# Altium footprint library PCB_Library.PcbLib: 13 footprints
Each footprint in its own frame and in the unit in brackets; x right, y up, seen from the top. Pads: shape width x height; smd on the part's side, far side on the other; paste and mask are expansions set on the pad; w line width, h text height; cw(c..) or ccw(c..) is an arc to the next point about the centre after c.
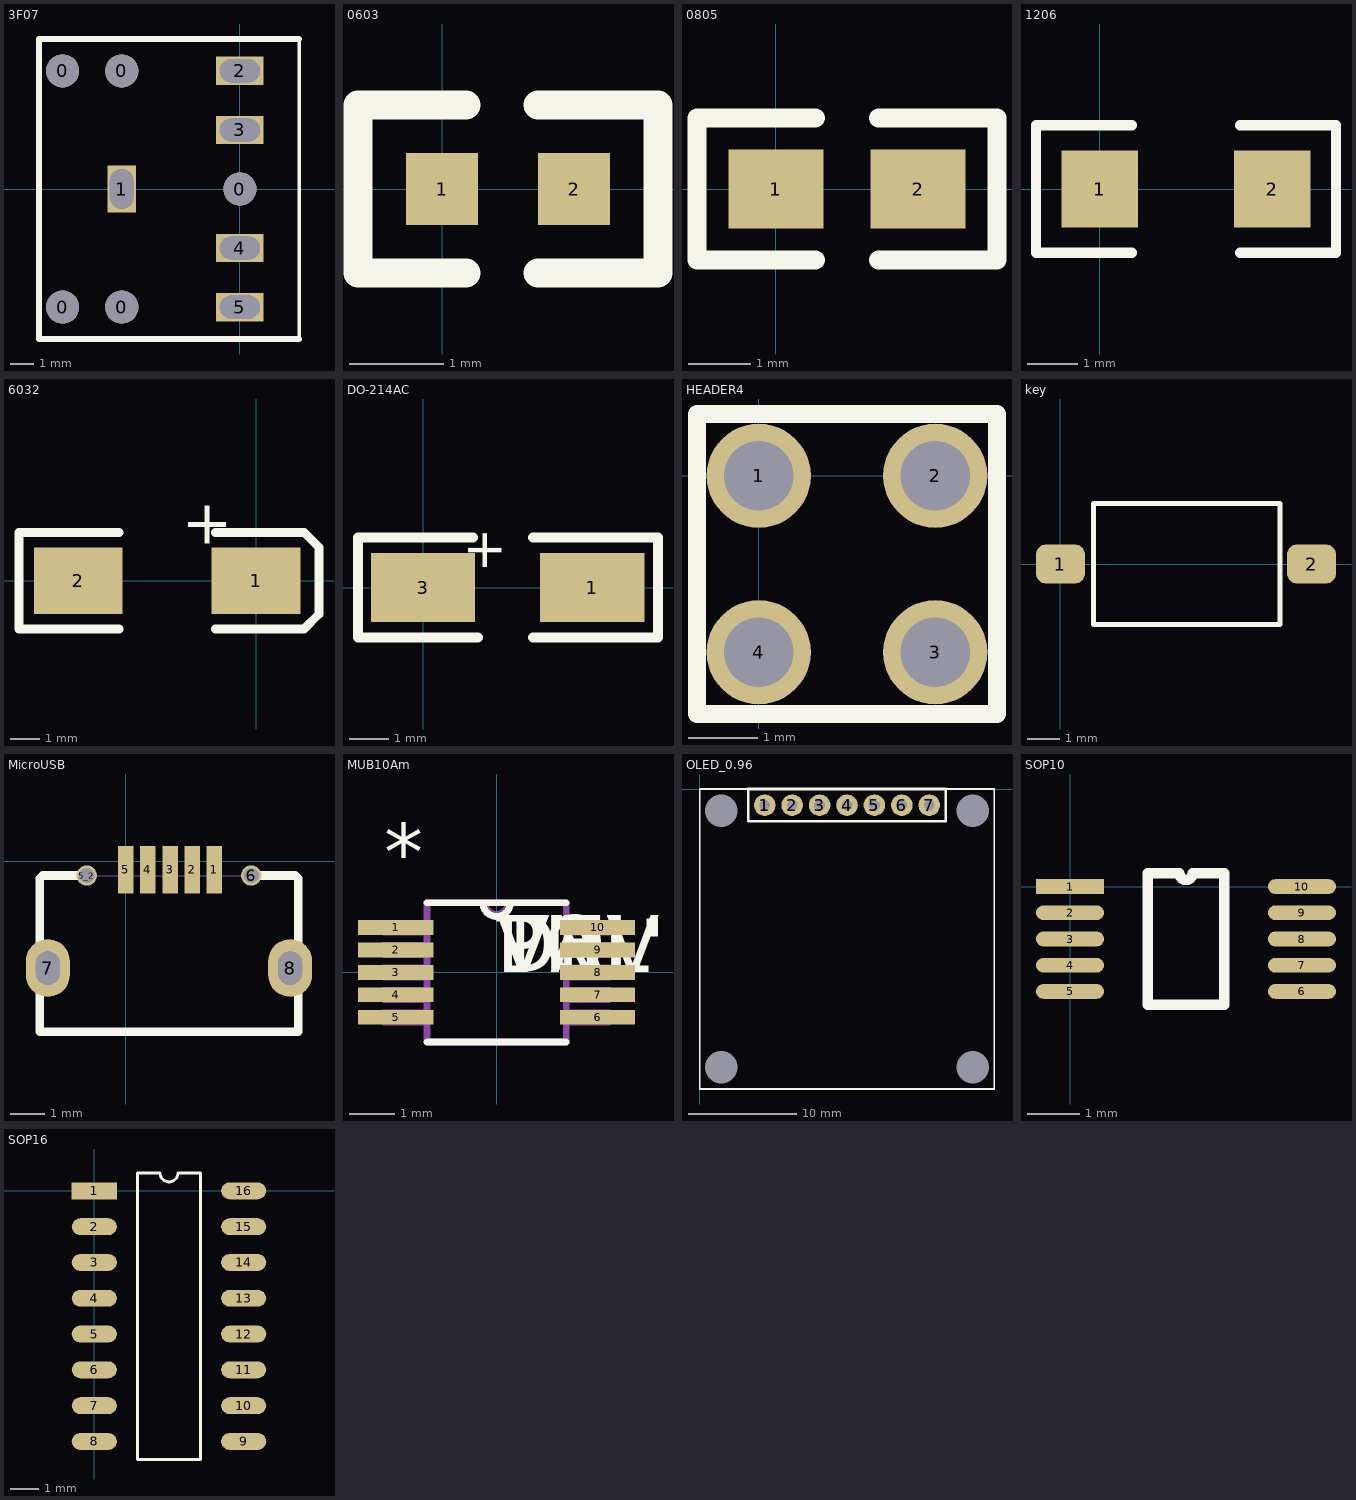
[diagram p0: the footprints below, top view; thin cyan lines are the x and y axes]

## 3F07 [mm]
pads (10):
  round 1.4 hole 1.4: 0(-7.5,-5) 0(-7.5,5) 0(-5,-5) 0(-5,5) 0(0,0)
  rect 1.2x2 hole 1 slot 1.7 at 90 deg: 1(-5,0)
  rect 2x1.2 hole 1 slot 1.7 at 0 deg: 2(0,5) 3(0,2.5) 4(0,-2.5) 5(0,-5)
Top Overlay:
  lines w0.152: 2.509,-6.35 2.509,6.35
  lines w0.254: 2.509,-6.35 -8.491,-6.35 -8.5,-6.341 -8.5,-5 -8.5,5 -8.5,6.341 -8.509,6.35 2.509,6.35

## 0603 [mil]
pads (2):
  rect 30x30 smd: 1(0,0) 2(55,0)
Top Overlay:
  lines w12: 10,-35 -35,-35 -35,35 10,35 ; 40,-35 90,-35 90,35 40,35

## 0805 [mil]
pads (2):
  rect 60x50 smd: 1(0,0) 2(90,0)
Top Overlay:
  lines w12: 25,-45 -50,-45 -50,45 25,45 ; 65,-45 140,-45 140,45 65,45

## 1206 [mil]
pads (2):
  rect 60x60 smd: 1(0,0) 2(135,0)
Top Overlay:
  lines w8: 25,-50 -50,-50 -50,50 25,50 ; 110,-50 185,-50 185,50 110,50

## 6032 [mil]
pads (2):
  rect 120x90 smd: 1(0,0) 2(-240,0)
Top Overlay:
  lines w12: -185,-65 -320,-65 -320,65 -185,65 ; -55,-65 65,-65 85,-45 85,45 65,65 -55,65
  text "+" at -100,50 h60

## DO-214AC [mm]
pads (2):
  rect 2.65x1.75 smd: 1(4.3,0) 3(0,0)
Top Overlay:
  lines w0.254: 1.27,1.27 -1.651,1.27 -1.651,-1.27 1.397,-1.27 ; 2.794,-1.27 5.969,-1.27 5.969,1.27 2.794,1.27
  text "+" at 1.143,1.524 h1

## HEADER4 [mm]
pads (4):
  round 1.5 hole 1: 1(0,0) 2(2.54,0) 3(2.54,-2.54) 4(0,-2.54)
Top Overlay:
  lines w0.254: -0.889,-3.429 -0.889,0.889 3.429,0.889 3.429,-3.429 -0.889,-3.429

## key [mm]
pads (2):
  rrect50% 1.5x1.2 smd: 1(0,0) 2(7.7,0)
Top Overlay:
  lines w0.152: 1.016,-1.85 1.016,1.85 6.731,1.85 6.731,-1.85 1.016,-1.85

## MicroUSB [mm]
height 2.997
pads (9):
  rect 0.457x1.397 smd: 1(2.6,-0.254) 2(1.95,-0.254) 3(1.3,-0.254) 4(0.65,-0.254) 5(0,-0.254)
  round 0.6 hole 0.45: 5_2(-1.155,-0.42) 6(3.695,-0.42)
  oval 1.3x1.7 hole 0.7 slot 1 at 90 deg: 7(-2.305,-3.15) 8(4.845,-3.15)
Top Overlay:
  lines w0.254: -2.305,-3.15 -2.54,-2.915 ; -1.155,-0.42 -2.452,-0.42 -2.54,-0.508 -2.54,-2.915 ; 3.695,-0.42 4.992,-0.42 5.08,-0.508 5.08,-3.15 ; 5.131,-2.667 5.08,-2.718 5.08,-5.029 -1.915,-5.029 -2.54,-5.029 -2.54,-2.915
Mechanical 1:
  lines w0: -2.497,-5.029 5.097,-5.029 5.097,-0.432 -2.497,-0.432 -2.497,-5.029

## MUB10Am [mil]
height 43
pads (10):
  rect 66x13 smd: 1(-88.5,39.37) 2(-88.5,19.68) 3(-88.5,0) 4(-88.5,-19.68) 5(-88.5,-39.37) 6(88.5,-39.37) 7(88.5,-19.68) 8(88.5,0) 9(88.5,19.68) 10(88.5,39.37)
Top Overlay:
  region: 131.5,46.87 141.5,46.87 141.5,31.87 131.5,31.87
  lines w6: -61,-61 61,-61 ; -61,61 61,61 ; -12,61 ccw(c0,61) 12,61
  text "*" at -98.5,80.87 h50
  text "PN" at 0,0 h50
  text "DEV" at 0,0 h50
  text "VAL" at 0,0 h50
  text "TOL" at 0,0 h50
Mechanical 1:
  lines w0: -12,61 ccw(c0,61) 12,61 ; -99.5,-45.87 -99.5,-32.87 -61,-32.87 -61,-45.87 -99.5,-45.87 ; -99.5,-26.18 -99.5,-13.19 -61,-13.19 -61,-26.18 -99.5,-26.18 ; -99.5,-6.5 -99.5,6.5 -61,6.5 -61,-6.5 -99.5,-6.5 ; -99.5,13.19 -99.5,26.18 -61,26.18 -61,13.19 -99.5,13.19 ; -99.5,32.87 -99.5,45.87 -61,45.87 -61,32.87 -99.5,32.87 ; -61,-61 61,-61 61,61 -61,61 -61,-61 ; 61,-45.87 61,-32.87 99.5,-32.87 99.5,-45.87 61,-45.87 ; 61,-26.18 61,-13.19 99.5,-13.19 99.5,-26.18 61,-26.18 ; 61,-6.5 61,6.5 99.5,6.5 99.5,-6.5 61,-6.5 ; 61,13.19 61,26.18 99.5,26.18 99.5,13.19 61,13.19 ; 61,32.87 61,45.87 99.5,45.87 99.5,32.87 61,32.87
  lines w6: -10.17,61 ccw(c0,61) 10.17,61 ; -61,-61 -61,61 61,61 61,-61 -61,-61
  text "*" at -98.5,80.87 h50
  text "RefDes2" at 0,0 h50
  text "43" at 0,0 h50
  text "2" at 0,0 h50

## OLED_0.96 [mm]
pads (11):
  round 0 hole 3: 0(2,-25.8) 0(2,-2) 0(25.3,-25.8) 0(25.3,-2)
  round 2 hole 1: 1(6.03,-1.5) 2(8.57,-1.5) 3(11.11,-1.5) 4(13.65,-1.5) 5(16.19,-1.5) 6(18.73,-1.5) 7(21.27,-1.5)
Top Overlay:
  lines w0.152: 0,-27.8 27.3,-27.8 27.3,-0.5 27.3,0 0,0 0,-27.8
  lines w0.254: 4.506,-3 4.506,0 22.794,0 22.794,-3 4.506,-3

## SOP10 [mm]
pads (10):
  rect 1.3x0.28 smd: 1(0,0)
  oval 1.3x0.28 smd: 2(0,-0.5) 3(0,-1) 4(0,-1.5) 5(0,-2) 6(4.42,-2) 7(4.42,-1.5) 8(4.42,-1) 9(4.42,-0.5) 10(4.42,0)
Top Overlay:
  lines w0.2: 1.485,-2.25 1.485,0.25 2.085,0.25 ccw(c2.21,0.25) 2.335,0.25 2.935,0.25 2.935,-2.25 1.485,-2.25

## SOP16 [mm]
pads (16):
  rect 1.6x0.6 smd: 1(0,0)
  oval 1.6x0.6 smd: 2(0,-1.27) 3(0,-2.54) 4(0,-3.81) 5(0,-5.08) 6(0,-6.35) 7(0,-7.62) 8(0,-8.89) 9(5.3,-8.89) 10(5.3,-7.62) 11(5.3,-6.35) 12(5.3,-5.08) 13(5.3,-3.81) 14(5.3,-2.54) 15(5.3,-1.27) 16(5.3,0)
Top Overlay:
  lines w0.1: 1.535,-9.525 3.765,-9.525 3.765,0.635 2.967,0.635 cw(c2.65,0.635) 2.332,0.635 1.535,0.635 1.535,-9.525